# Altium footprint library Z30C1T8460001.PcbLib: 1 footprints
Each footprint in its own frame and in the unit in brackets; x right, y up, seen from the top. Pads: shape width x height; smd on the part's side, far side on the other; paste and mask are expansions set on the pad; w line width, h text height; cw(c..) or ccw(c..) is an arc to the next point about the centre after c.
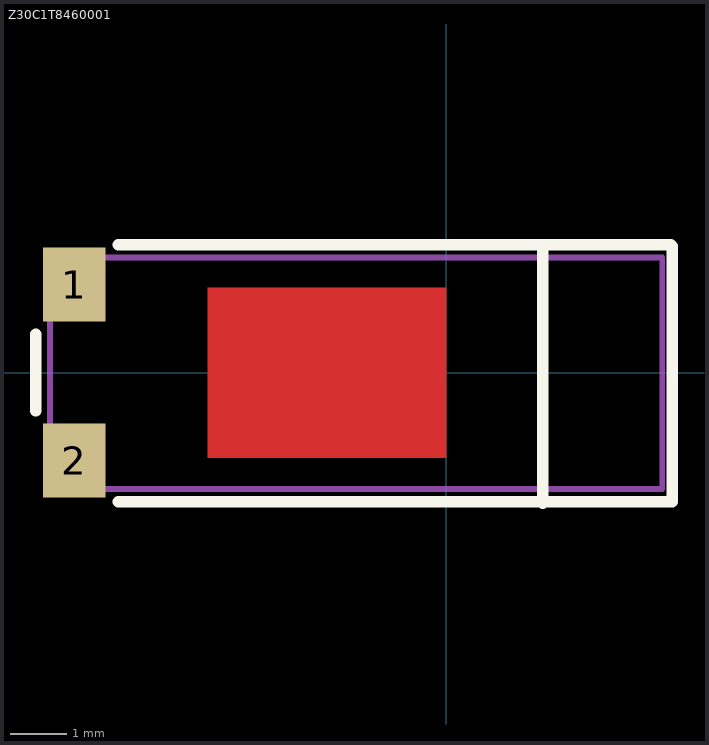
[diagram p0: the footprint, top view; thin cyan lines are the x and y axes]

## Z30C1T8460001 [mm] "Z30C1T8460001"
pads (2):
  rect 1.1x1.3 smd paste+0 mask+0.05: 1(-6.55,1.55) 2(-6.55,-1.55)
Top Layer:
  rectangle: -4.2,-1.5 0,1.5
Top Overlay:
  lines w0.2: -7.225,-0.675 -7.225,0.675 ; -5.775,-2.275 3.975,-2.275 3.975,2.225 3.95,2.25 -5.775,2.25 ; 1.7,-2.3 1.7,2.2
Top Paste:
  rectangle: -4.2,-1.5 0,1.5
Top Solder:
  rectangle: -4.25,-1.55 0.05,1.55
Top Assembly:
  lines w0.1: -6.975,-2.05 3.8,-2.05 3.8,2.025 -6.975,2.025 -6.975,-2.05
  text "'.Designator'" at -6.075,-0.325 h0.8
3D body "Z3OC1T8460001  3D.STEP": height 3.03, standoff -0.03, extent -6.9,-2.025 3.8,2.003